# Altium schematic symbol library lm2587 sembol.SchLib: 1 symbol
Pins are listed as number, name and electrical type; pins without a type are passive.

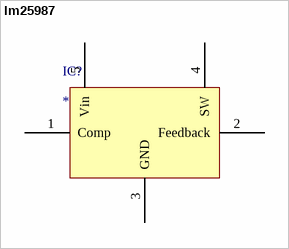
[diagram p0: symbol lm25987]

## lm25987
designator IC?
pins: 1 Comp, 2 Feedback, 3 GND, 4 SW, 5 Vin